# Altium footprint library 180uF-Cap.PcbLib: 3 footprints
Each footprint in its own frame and in the unit in brackets; x right, y up, seen from the top. Pads: shape width x height; smd on the part's side, far side on the other; paste and mask are expansions set on the pad; w line width, h text height; cw(c..) or ccw(c..) is an arc to the next point about the centre after c.
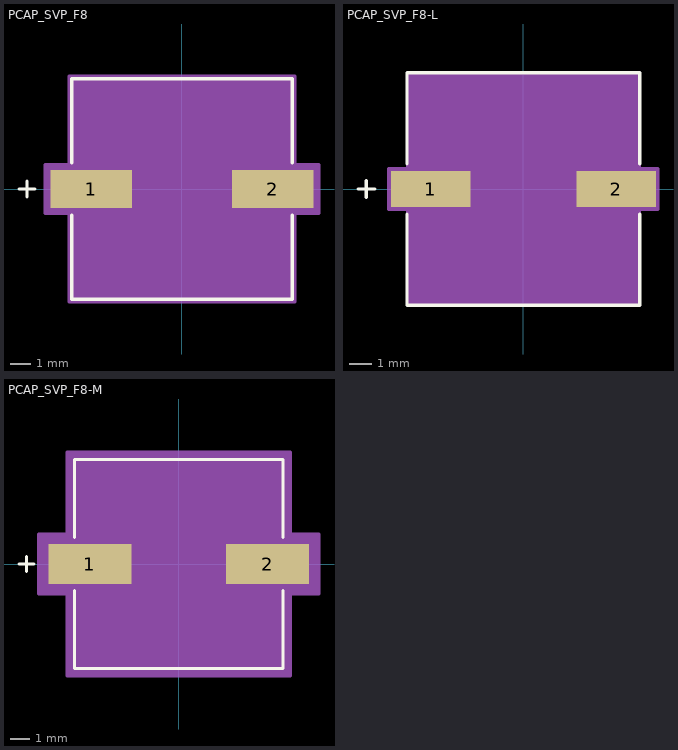
[diagram p0: the footprints below, top view; thin cyan lines are the x and y axes]

## PCAP_SVP_F8 [mil]
pads (2):
  rect 154x72 smd paste+0 mask+0: 1(-171.5,0) 2(171.5,0)
Top Overlay:
  lines w6: -307.5,0 -277.5,0 ; -292.5,-15 -292.5,15 ; -208,-49.1 -208,-208 208,-208 208,-49.1 ; -208,49.1 -208,208 208,208 208,49.1
Mechanical 13:
  lines w1: -307.5,0 -277.5,0 ; -292.5,-15 -292.5,15 ; -203,-101.5 -101.5,-203 ; -203,101.5 -101.5,203 ; -203,-203 203,-203 203,203 -203,203 -203,-203
Mechanical 15:
  region: -213,-46 -258.5,-46 -258.5,46 -213,46 -213,213 213,213 213,46 258.5,46 258.5,-46 213,-46 213,-213 -213,-213
  lines w6: -258.5,-46 -258.5,46 -213,46 -213,213 213,213 213,46 258.5,46 258.5,-46 213,-46 213,-213 -213,-213 -213,-46 -258.5,-46
3D body "PCAP_SVP_F8.stp": height 317.01, standoff 0, extent -220.51,-202.99 220.52,203
3D body: height 10, standoff 0, extent 0,0 10,10

## PCAP_SVP_F8-L [mil]
pads (2):
  rect 142x64 smd paste+0 mask+0: 1(-165.5,0) 2(165.5,0)
Top Overlay:
  lines w6: -295.5,0 -265.5,0 ; -280.5,-15 -280.5,15 ; -208,-45.1 -208,-208 208,-208 208,-45.1 ; -208,45.1 -208,208 208,208 208,45.1
Mechanical 13:
  lines w1: -295.5,0 -265.5,0 ; -280.5,-15 -280.5,15 ; -203,-101.5 -101.5,-203 ; -203,101.5 -101.5,203 ; -203,-203 203,-203 203,203 -203,203 -203,-203
Mechanical 15:
  region: -207,-36 -240.5,-36 -240.5,36 -207,36 -207,207 207,207 207,36 240.5,36 240.5,-36 207,-36 207,-207 -207,-207
  lines w6: -240.5,-36 -240.5,36 -207,36 -207,207 207,207 207,36 240.5,36 240.5,-36 207,-36 207,-207 -207,-207 -207,-36 -240.5,-36
3D body: height 10, standoff 0, extent 0,0 10,10

## PCAP_SVP_F8-M [mil]
pads (2):
  rect 165x80 smd paste+0 mask+0: 1(-177,0) 2(177,0)
Top Overlay:
  lines w6: -318.5,0 -288.5,0 ; -303.5,-15 -303.5,15 ; -208,-53.1 -208,-208 208,-208 208,-53.1 ; -208,53.1 -208,208 208,208 208,53.1
Mechanical 13:
  lines w1: -318.5,0 -288.5,0 ; -303.5,-15 -303.5,15 ; -203,-101.5 -101.5,-203 ; -203,101.5 -101.5,203 ; -203,-203 203,-203 203,203 -203,203 -203,-203
Mechanical 15:
  region: -223,-60 -279.5,-60 -279.5,60 -223,60 -223,223 223,223 223,60 279.5,60 279.5,-60 223,-60 223,-223 -223,-223
  lines w6: -279.5,-60 -279.5,60 -223,60 -223,223 223,223 223,60 279.5,60 279.5,-60 223,-60 223,-223 -223,-223 -223,-60 -279.5,-60
3D body: height 10, standoff 0, extent 0,0 10,10